# Altium footprint library microphon.PCBLIB: 19 footprints (part 2 of 2)
Each footprint in its own frame and in the unit in brackets; x right, y up, seen from the top. Pads: shape width x height; smd on the part's side, far side on the other; paste and mask are expansions set on the pad; w line width, h text height; cw(c..) or ccw(c..) is an arc to the next point about the centre after c.
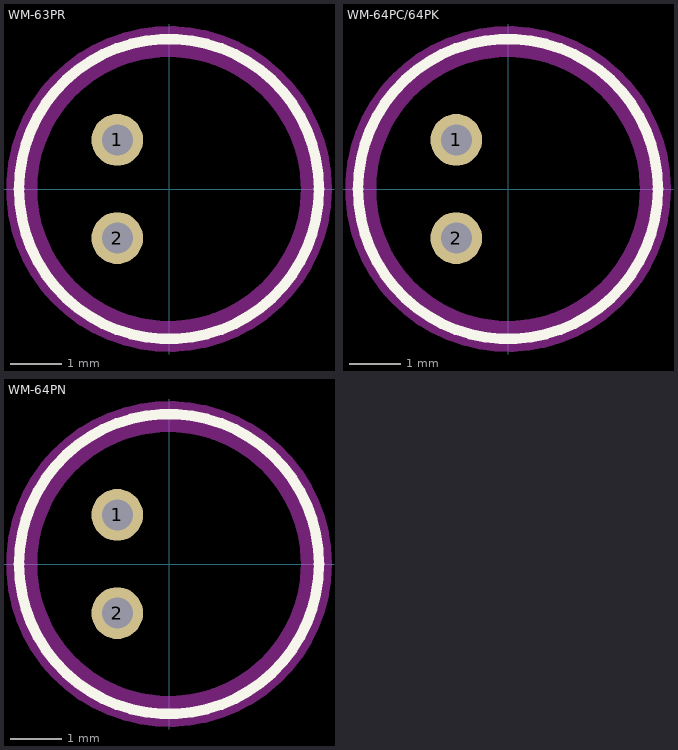
[diagram p1: the footprints below, top view; thin cyan lines are the x and y axes]

## WM-63PR [mm]
pads (2):
  round 1 hole 0.6: 1(-1,0.95) 2(-1,-0.95)
Top Layer keep-out:
  circle w0.6: c0,0 r2.85
Top Overlay:
  circle w0.203: c0,0 r2.9

## WM-64PC/64PK [mm]
pads (2):
  round 1 hole 0.6: 1(-1,0.95) 2(-1,-0.95)
Top Layer keep-out:
  circle w0.6: c0,0 r2.85
Top Overlay:
  circle w0.203: c0,0 r2.9

## WM-64PN [mm]
pads (2):
  round 1 hole 0.6: 1(-1,0.95) 2(-1,-0.95)
Top Layer keep-out:
  circle w0.6: c0,0 r2.85
Top Overlay:
  circle w0.203: c0,0 r2.9